# EAGLE library part 74HC4052N,652 (library NXP_By_element14_Batch_1)
Dual 4-channel analog multiplexer/demultiplexer
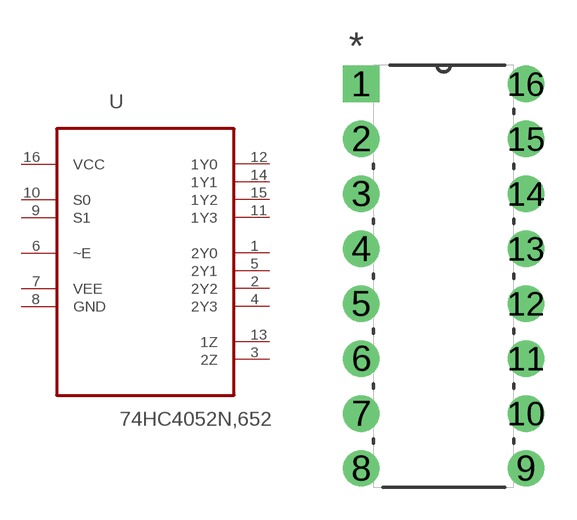
[diagram p110: symbol with the pads of DIP254P762X420-16; footprint DIP254P762X420-16]

Designator prefix U

## 74HC4052N,652 (MPN: 74HC4052N,652; OC_FARNELL: -; OC_NEWARK: 71R2516; PACKAGE: DIP-16; SUPPLIER: NXP)  [DIP254P762X420-16]
1  2Y0
2  2Y2
3  2Z
4  2Y3
5  2Y1
6  ~E  in
7  VEE  pwr
8  GND  pas
9  S1  in
10  S0  in
11  1Y3
12  1Y0
13  1Z
14  1Y1
15  1Y2
16  VCC  pwr

## Footprint DIP254P762X420-16 (pad centres in mm)
drill 1.118 square: 1 -7.62,17.78
drill 1.118: 2 -7.62,15.24; 3 -7.62,12.7; 4 -7.62,10.16; 5 -7.62,7.62; 6 -7.62,5.08; 7 -7.62,2.54; 8 -7.62,0; 9 0,0; 10 0,2.54; 11 0,5.08; 12 0,7.62; 13 0,10.16; 14 0,12.7; 15 0,15.24; 16 0,17.78